# Altium integrated library DS18B20.IntLib: 1 symbol
Pins are listed as number, name and electrical type; pins without a type are passive.

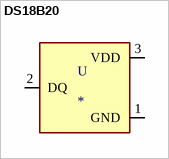
[diagram p0: symbol DS18B20]

## DS18B20
designator U
Temperature Sensor Digital, Local -55Â°C ~ 125Â°C 12 b TO-92-3; MF: Maxim Integrated; MP: DS18B20; Package: TO-92 Maxim Integrated; Value: *; Price: None; Availability: Unavailable; SnapEDA_Link: https://www.snapeda.com/parts/DS18B20/Maxim%20Integrated/view-part/1266091/?ref=snap
footprint TO-92-TO92127P495H2044-3
pins: 1 GND (power), 2 DQ (io), 3 VDD (power)